# Altium footprint library Footprints_Passives.PcbLib: 6 footprints
Each footprint in its own frame and in the unit in brackets; x right, y up, seen from the top. Pads: shape width x height; smd on the part's side, far side on the other; paste and mask are expansions set on the pad; w line width, h text height; cw(c..) or ccw(c..) is an arc to the next point about the centre after c.
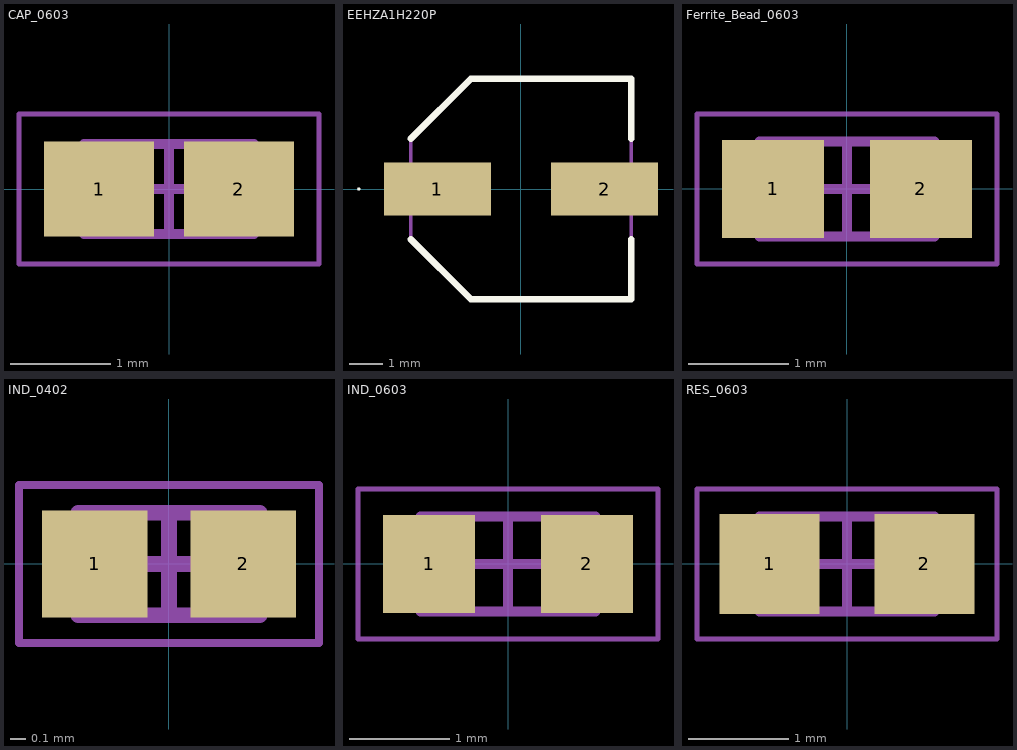
[diagram p0: the footprints below, top view; thin cyan lines are the x and y axes]

## CAP_0603 [mm] "CAP_0603"
height 0.9
pads (2):
  rect 1.1x0.95 smd mask+0.05: 1(-0.7,0) 2(0.7,0)
Mechanical 13:
  lines w0.1: -0.85,-0.45 0.85,-0.45 0.85,0.45 -0.85,0.45 -0.85,-0.45
Mechanical 15:
  lines w0.05: -1.5,-0.75 1.5,-0.75 1.5,0.75 -1.5,0.75 -1.5,-0.75
  lines w0.1: -0.45,0 0.45,0 ; 0,-0.45 0,0.45
3D body "CAP_0603.step": height 0.9, standoff 0, extent -0.85,-0.45 0.85,0.45

## EEHZA1H220P [mm]
pads (2):
  rect 3.2x1.6 smd: 1(-2.5,0) 2(2.5,0)
Top Overlay:
  lines w0.05: -4.875,0 cw(c-4.85,0) -4.825,0 cw(c-4.85,0) -4.875,0
  lines w0.2: -3.3,-1.5 -1.5,-3.3 3.3,-3.3 3.3,-1.5 ; -3.3,1.5 -1.5,3.3 3.3,3.3 3.3,1.5
Mechanical 15:
  lines w0.1: -3.3,1.5 -1.5,3.3 ; -3.3,1.5 -3.3,-1.5 -1.5,-3.3 3.3,-3.3 3.3,3.3 -1.5,3.3 ; -3.3,1.5 -1.5,3.3
3D body "EEHZA1H220P.stp": height 7.71, standoff 0.01, extent -3.65,-3.3 3.65,3.3

## Ferrite_Bead_0603 [mm]
pads (2):
  rect 1.02x0.98 smd: 1(-0.74,0) 2(0.74,0)
Mechanical 13:
  lines w0.1: -0.875,-0.475 -0.875,0.475 0.875,0.475 0.875,-0.475 -0.875,-0.475
Mechanical 15:
  lines w0.05: -1.5,-0.75 -1.5,0.75 1.5,0.75 1.5,-0.75 -1.5,-0.75
  lines w0.1: -0.475,0 0.475,0 ; 0,-0.475 0,0.475
3D body "Ferrite_Bead_0603.step": height 0.95, standoff 0, extent -0.875,-0.475 0.875,0.475

## IND_0402 [mm]
height 0.65
pads (2):
  rect 0.67x0.68 smd mask+0.05: 1(-0.47,0) 2(0.47,0)
Mechanical 13:
  lines w0.1: -0.575,-0.325 -0.575,0.325 0.575,0.325 0.575,-0.325 -0.575,-0.325
Mechanical 15:
  lines w0.05: -0.95,-0.5 -0.95,0.5 0.95,0.5 0.95,-0.5 -0.95,-0.5
  lines w0.1: -0.325,0 0.325,0 ; 0,-0.325 0,0.325
3D body "IND_0402.step": height 0.65, standoff 0, extent -0.575,-0.325 0.575,0.325

## IND_0603 [mm] "Chip Inductor, 2-Leads, Body 1.60x0.80mm, IPC Medium Density"
height 0.95
pads (2):
  rect 0.92x0.98 smd: 1(-0.79,0) 2(0.79,0)
Mechanical 13:
  lines w0.1: -0.875,-0.475 -0.875,0.475 0.875,0.475 0.875,-0.475 -0.875,-0.475
Mechanical 15:
  lines w0.05: -1.5,-0.75 -1.5,0.75 1.5,0.75 1.5,-0.75 -1.5,-0.75
  lines w0.1: -0.475,0 0.475,0 ; 0,-0.475 0,0.475
3D body "INDC1608X10N.step": height 0.95, standoff 0, extent -0.875,-0.475 0.875,0.475

## RES_0603 [mm] "RES_0603"
height 0.55
pads (2):
  rect 1x1 smd mask+0.05: 1(-0.775,0) 2(0.775,0)
Mechanical 13:
  lines w0.1: -0.875,-0.475 -0.875,0.475 0.875,0.475 0.875,-0.475 -0.875,-0.475
Mechanical 15:
  lines w0.05: -1.5,-0.75 -1.5,0.75 1.5,0.75 1.5,-0.75 -1.5,-0.75
  lines w0.1: -0.475,0 0.475,0 ; 0,-0.475 0,0.475
3D body "R_0603.step": height 0.55, standoff 0, extent -0.875,-0.475 0.875,0.475